# Altium footprint library PcbLib1.PcbLib: 2 footprints
Each footprint in its own frame and in the unit in brackets; x right, y up, seen from the top. Pads: shape width x height; smd on the part's side, far side on the other; paste and mask are expansions set on the pad; w line width, h text height; cw(c..) or ccw(c..) is an arc to the next point about the centre after c.
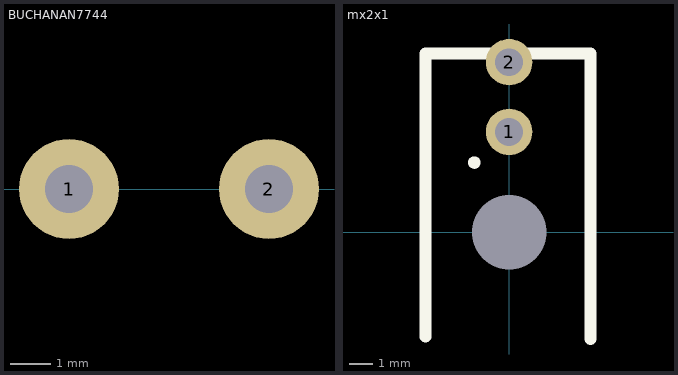
[diagram p0: the footprints below, top view; thin cyan lines are the x and y axes]

## BUCHANAN7744 [mm]
pads (2):
  round 2.5 hole 1.2: 1(3,0) 2(8,0)
3D body: height 13, standoff 0, extent 0,-4 11,4

## mx2x1 [mm] "right_angle"
pads (3):
  round 2 hole 1.2: 1(0,4.32) 2(0,7.32)
  round 0 hole 3.2 unplated: ""(0,0)
Top Overlay:
  circle w0.254: c-1.5,3 r0.141
  lines w0.508: -3.6,-4.5 -3.6,7.7 3.5,7.7 3.5,-4.6
3D body "430450200.stp": height 8.83, standoff -3.12, extent -3.575,-4.6 3.575,7.64